# Altium schematic symbol library nucleo.SchLib: 1 symbol
Pins are listed as number, name and electrical type; pins without a type are passive.

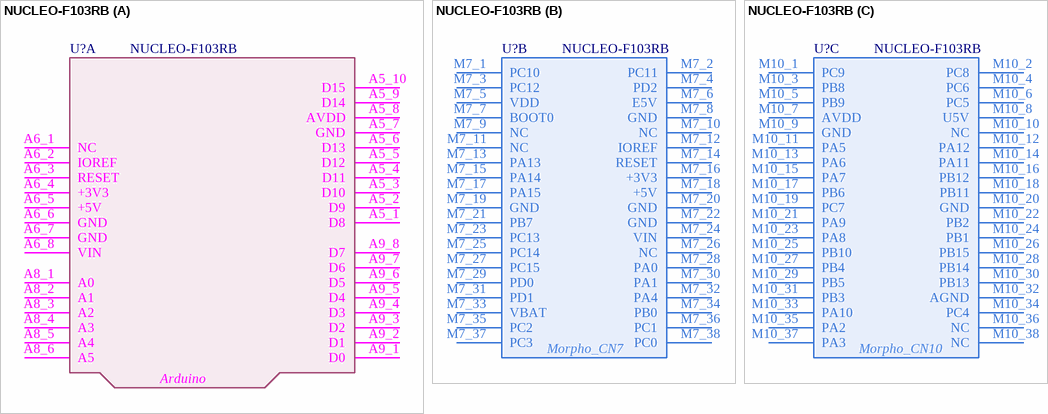
[diagram p0: symbol NUCLEO-F103RB]

## NUCLEO-F103RB
designator U?
STM32F103RB, mbed-Enabled Development Nucleo-64 STM32F1 ARM® Cortex®-M3 MCU 32-Bit Embedded Evaluation Board; Manufacturer: STMicroelectronics; Manufacturer Product Number: NUCLEO-F103RB; BRAND: STMicroelectronics; PART NO: NUCLEO-F103RB; STOCK CODE: 497-14362-ND; SUPPLIER: digi-key; TYPE: EVAL BRD
footprint NUCLEO
part A pins: A5_1 D8, A5_2 D9, A5_3 D10, A5_4 D11, A5_5 D12, A5_6 D13, A5_7 GND, A5_8 AVDD, A5_9 D14, A5_10 D15, A6_1 NC, A6_2 IOREF, A6_3 RESET, A6_4 +3V3, A6_5 +5V, A6_6 GND, A6_7 GND, A6_8 VIN, A8_1 A0, A8_2 A1, A8_3 A2, A8_4 A3, A8_5 A4, A8_6 A5, A9_1 D0, A9_2 D1, A9_3 D2, A9_4 D3, A9_5 D4, A9_6 D5, A9_7 D6, A9_8 D7
part B pins: M7_1 PC10, M7_2 PC11, M7_3 PC12, M7_4 PD2, M7_5 VDD, M7_6 E5V, M7_7 BOOT0, M7_8 GND, M7_9 NC, M7_10 NC, M7_11 NC, M7_12 IOREF, M7_13 PA13, M7_14 RESET, M7_15 PA14, M7_16 +3V3, M7_17 PA15, M7_18 +5V, M7_19 GND, M7_20 GND, M7_21 PB7, M7_22 GND, M7_23 PC13, M7_24 VIN, M7_25 PC14, M7_26 NC, M7_27 PC15, M7_28 PA0, M7_29 PD0, M7_30 PA1, M7_31 PD1, M7_32 PA4, M7_33 VBAT, M7_34 PB0, M7_35 PC2, M7_36 PC1, M7_37 PC3, M7_38 PC0
part C pins: M10_1 PC9, M10_2 PC8, M10_3 PB8, M10_4 PC6, M10_5 PB9, M10_6 PC5, M10_7 AVDD, M10_8 U5V, M10_9 GND, M10_10 NC, M10_11 PA5, M10_12 PA12, M10_13 PA6, M10_14 PA11, M10_15 PA7, M10_16 PB12, M10_17 PB6, M10_18 PB11, M10_19 PC7, M10_20 GND, M10_21 PA9, M10_22 PB2, M10_23 PA8, M10_24 PB1, M10_25 PB10, M10_26 PB15, M10_27 PB4, M10_28 PB14, M10_29 PB5, M10_30 PB13, M10_31 PB3, M10_32 AGND, M10_33 PA10, M10_34 PC4, M10_35 PA2, M10_36 NC, M10_37 PA3, M10_38 NC
part A text: Arduino
part B text: Morpho_CN7
part C text: Morpho_CN10